# EAGLE library part L9960T (library l9960)
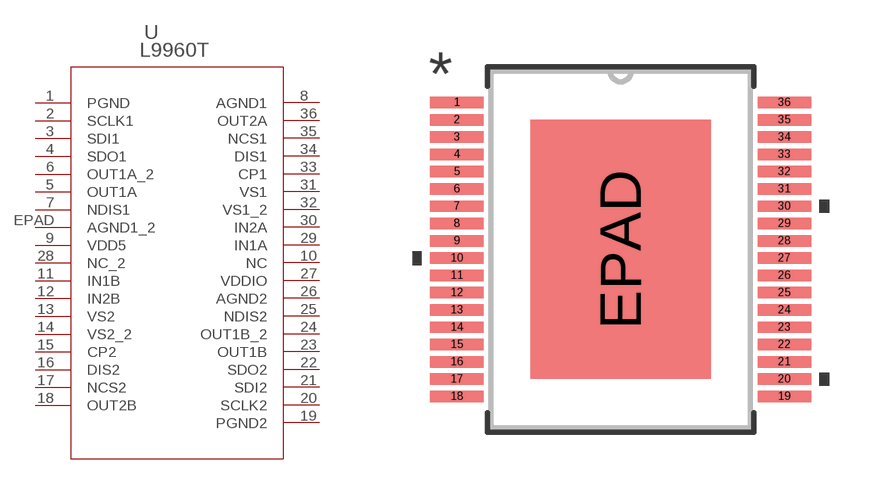
[diagram p0: symbol with the pads of POWERSSO-36_STM; footprint POWERSSO-36_STM]

Designator prefix -

## L9960T  [POWERSSO-36_STM]
1  PGND  pas
2  SCLK1  in
3  SDI1  in
4  SDO1  out
5  OUT1A  out
6  OUT1A_2  out
7  NDIS1
8  AGND1  pas
9  VDD5  pwr
10  NC  nc
11  IN1B  in
12  IN2B  in
13  VS2  in
14  VS2_2  in
15  CP2  out
16  DIS2  in
17  NCS2  in
18  OUT2B  out
19  PGND2  pas
20  SCLK2  in
21  SDI2  in
22  SDO2  out
23  OUT1B  out
24  OUT1B_2  out
25  NDIS2
26  AGND2  pas
27  VDDIO  pwr
28  NC_2  nc
29  IN1A  in
30  IN2A  in
31  VS1  pwr
32  VS1_2  pwr
33  CP1  out
34  DIS1  in
35  NCS1  in
36  OUT2A  out
EPAD  AGND1_2  pas

## Footprint POWERSSO-36_STM (pad centres in mm)
smd 1.549 x 0.33: 1 -4.737,4.25; 2 -4.737,3.75; 3 -4.737,3.25; 4 -4.737,2.75; 5 -4.737,2.25; 6 -4.737,1.75; 7 -4.737,1.25; 8 -4.737,0.75; 9 -4.737,0.25; 10 -4.737,-0.25; 11 -4.737,-0.75; 12 -4.737,-1.25; 13 -4.737,-1.75; 14 -4.737,-2.25; 15 -4.737,-2.75; 16 -4.737,-3.25; 17 -4.737,-3.75; 18 -4.737,-4.25; 19 4.737,-4.25; 20 4.737,-3.75; 21 4.737,-3.25; 22 4.737,-2.75; 23 4.737,-2.25; 24 4.737,-1.75; 25 4.737,-1.25; 26 4.737,-0.75; 27 4.737,-0.25; 28 4.737,0.25; 29 4.737,0.75; 30 4.737,1.25; 31 4.737,1.75; 32 4.737,2.25; 33 4.737,2.75; 34 4.737,3.25; 35 4.737,3.75; 36 4.737,4.25
smd 5.207 x 7.493: EPAD 0,0